# Altium footprint library WDX-DIY-PCB.PCBLIB: 138 footprints (part 6 of 9)
Each footprint in its own frame and in the unit in brackets; x right, y up, seen from the top. Pads: shape width x height; smd on the part's side, far side on the other; paste and mask are expansions set on the pad; w line width, h text height; cw(c..) or ccw(c..) is an arc to the next point about the centre after c.
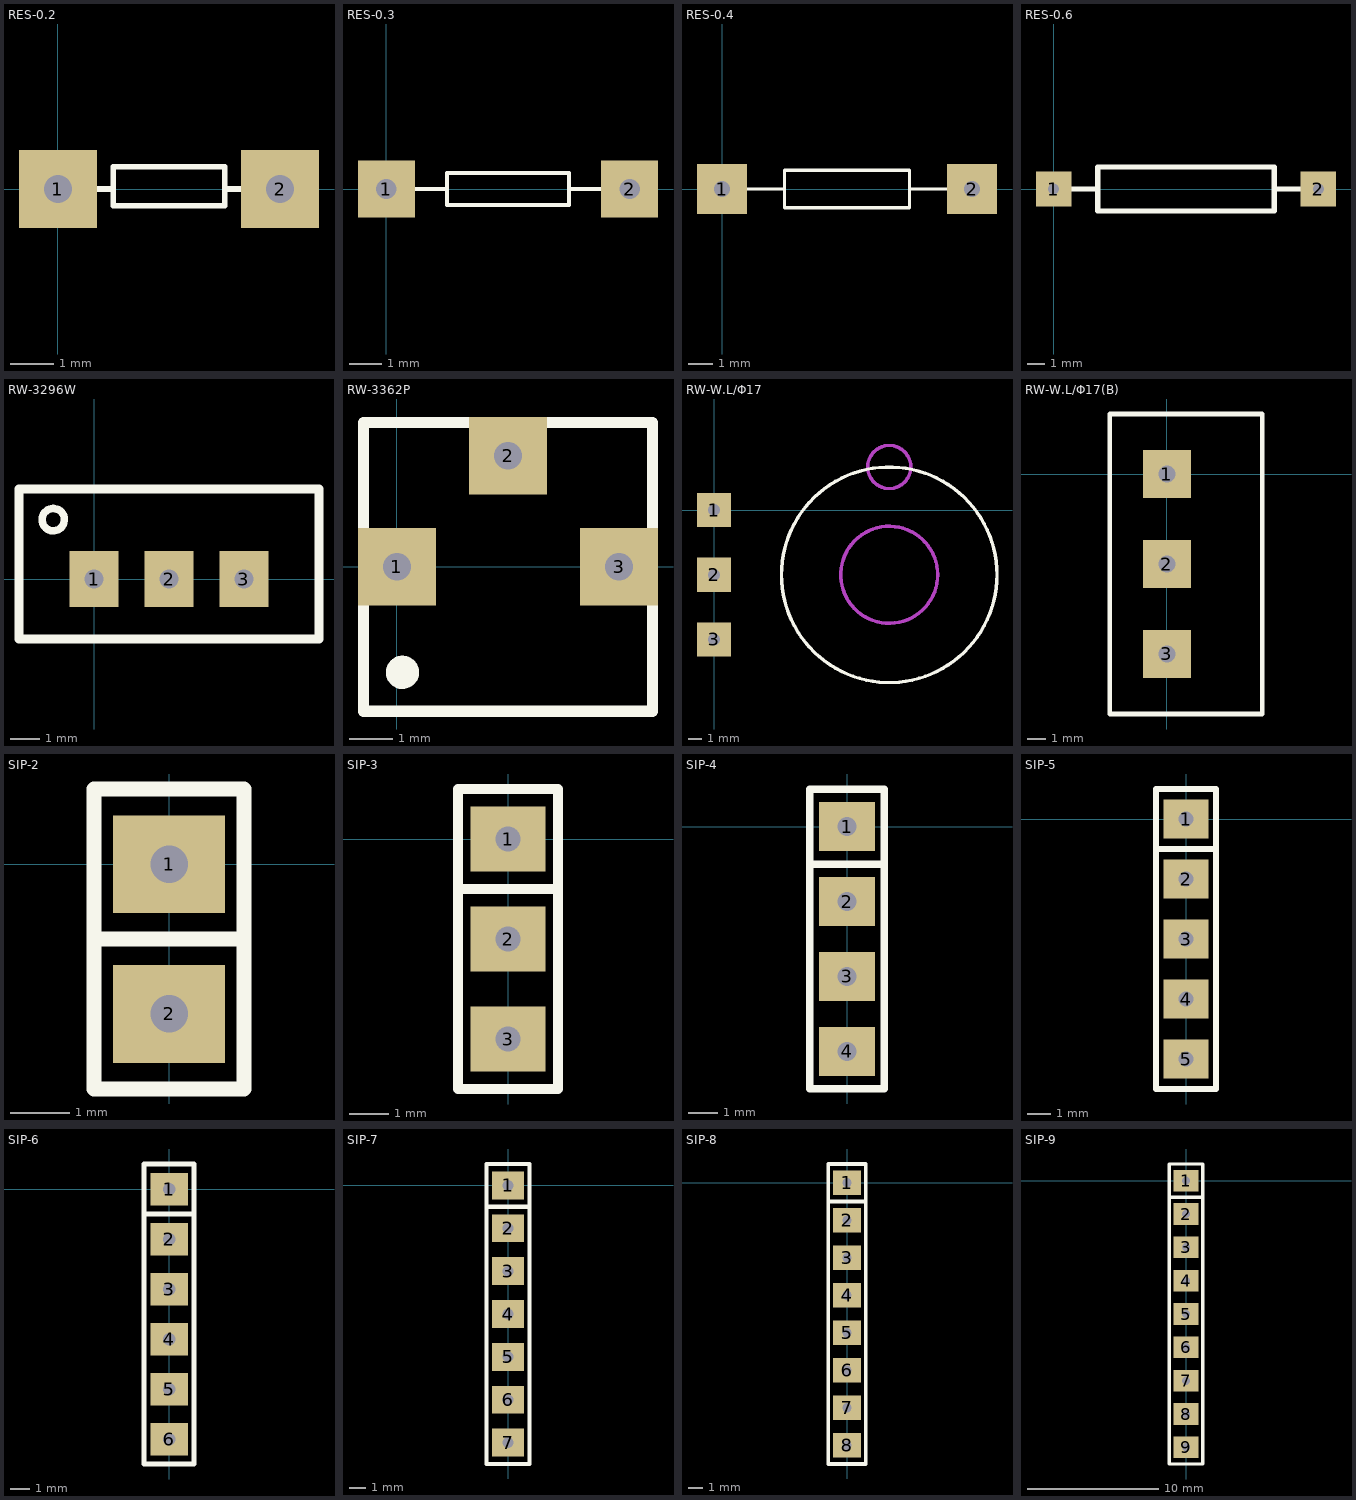
[diagram p5: the footprints below, top view; thin cyan lines are the x and y axes]

## RES-0.2 [mil]
pads (2):
  rect 70x70 hole 25: 1(0,0) 2(200,0)
TopOverlay:
  lines w5: 0,0 50,0 ; 150,0 200,0 ; 50,-15 150,-15 150,20 50,20 50,-15

## RES-0.3 [mil]
pads (2):
  rect 70x70 hole 25: 1(0,0) 2(300,0)
TopOverlay:
  lines w5: 35,0 75,0 ; 225,0 265,0 ; 75,-20 75,20 225,20 225,-20 75,-20

## RES-0.4 [mil]
pads (2):
  rect 80x80 hole 25: 1(0,0) 2(400,0)
TopOverlay:
  lines w5: 35,0 100,0 ; 300,0 365,0 ; 100,-30 100,30 300,30 300,-30 100,-30

## RES-0.6 [mil]
pads (2):
  rect 80x80 hole 25: 1(0,0) 2(600,0)
TopOverlay:
  lines w12: 40,0 100,0 ; 500,0 560,0 ; 100,-50 500,-50 500,50 100,50 100,-50

## RW-3296W [mil]
pads (3):
  rect 65x75 hole 25: 1(0,0) 2(100,0) 3(200,0)
TopOverlay:
  lines w10: -40,75 cw(c-54.35,79.1) -39.52,77.45
  lines w12: -100,-80 300,-80 300,20 300,120 -100,120 -100,-80

## RW-3362P [mil]
pads (3):
  rect 70x70 hole 25: 1(0,0) 2(100,100) 3(200,0)
TopOverlay:
  lines w10: -30,-130 230,-130 230,130 -30,130 -30,-130
  lines w15: 12.21,-97.06 cw(c5,-95) 12.45,-95.83

## RW-W.L/Φ17 [mil]
pads (3):
  rect 100x100 hole 35: 1(0,0) 2(0,-188.98) 3(0,-377.95)
TopOverlay:
  circle w10: c511.81,-188.98 r314.96
KeepOutLayer:
  circle w10: c511.81,125.98 r62.99
  circle w10: c511.81,-188.98 r141.73
Mechanical1:
  circle w10: c511.81,125.98 r62.99
  circle w10: c511.81,-188.98 r141.73

## RW-W.L/Φ17(B) [mil]
pads (3):
  rect 100x100 hole 35: 1(0,0) 2(0,-188.98) 3(0,-377.95)
TopOverlay:
  lines w10: -120,-503.98 200,-503.98 200,126.02 -120,126.02 -120,-503.98

## SIP-2 [mil]
pads (2):
  rect 75x65 hole 25: 1(0,0) 2(0,-100)
TopOverlay:
  lines w10: -50,-50 50,-50 ; -50,-150 50,-150 50,50 -50,50 -50,-150

## SIP-3 [mil]
pads (3):
  rect 75x65 hole 25: 1(0,0) 2(0,-100) 3(0,-200)
TopOverlay:
  lines w10: -50,-50 50,-50 ; -50,-250 -50,50 50,50 50,-250 -50,-250

## SIP-4 [mil]
pads (4):
  rect 75x65 hole 25: 1(0,0) 2(0,-100) 3(0,-200) 4(0,-300)
TopOverlay:
  lines w10: -50,-50 50,-50 ; -50,-350 -50,50 50,50 50,-350 -50,-350

## SIP-5 [mil]
pads (5):
  rect 75x65 hole 25: 1(0,0) 2(0,-100) 3(0,-200) 4(0,-300) 5(0,-400)
TopOverlay:
  lines w10: -50,-50 50,-50 ; -50,-450 -50,50 50,50 50,-450 -50,-450

## SIP-6 [mil]
pads (6):
  rect 75x65 hole 25: 1(0,0) 2(0,-100) 3(0,-200) 4(0,-300) 5(0,-400) 6(0,-500)
TopOverlay:
  lines w10: -50,-50 50,-50 ; -50,-550 50,-550 50,50 -50,50 -50,-550

## SIP-7 [mil]
pads (7):
  rect 75x65 hole 25: 1(0,0) 2(0,-100) 3(0,-200) 4(0,-300) 5(0,-400) 6(0,-500) 7(0,-600)
TopOverlay:
  lines w10: -50,-50 50,-50 ; -50,-650 50,-650 50,50 -50,50 -50,-650

## SIP-8 [mil]
pads (8):
  rect 75x65 hole 25: 1(0,0) 2(0,-100) 3(0,-200) 4(0,-300) 5(0,-400) 6(0,-500) 7(0,-600) 8(0,-700)
TopOverlay:
  lines w10: -50,-50 50,-50 ; -50,-750 50,-750 50,50 -50,50 -50,-750

## SIP-9 [mil]
pads (9):
  rect 75x65 hole 25: 1(0,0) 2(0,-100) 3(0,-200) 4(0,-300) 5(0,-400) 6(0,-500) 7(0,-600) 8(0,-700) 9(0,-800)
TopOverlay:
  lines w10: -50,-50 50,-50 ; -50,-850 -50,50 50,50 50,-850 -50,-850